# EAGLE library part SUB_DEV_2 (library WASP)
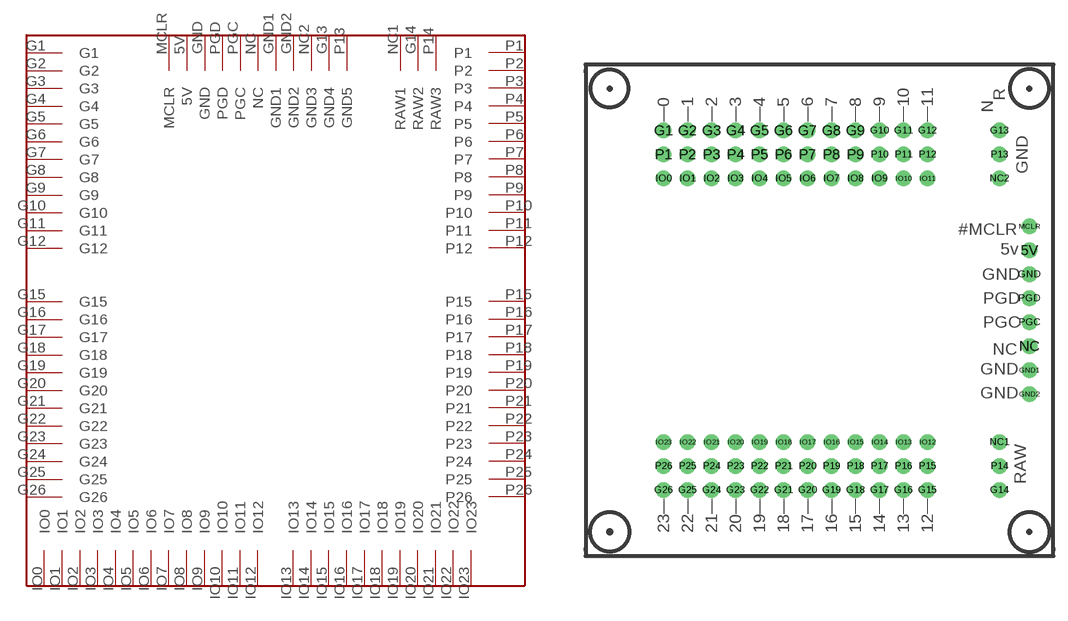
[diagram p6: symbol with the pads of SUB_DEV_2; footprint SUB_DEV_2]

Designator prefix -

## SUB_DEV_2  [SUB_DEV_2]
5V  5V
G1  G1
G2  G2
G3  G3
G4  G4
G5  G5
G6  G6
G7  G7
G8  G8
G9  G9
G10  G10
G11  G11
G12  G12
G13  GND4
G14  RAW2
G15  G15
G16  G16
G17  G17
G18  G18
G19  G19
G20  G20
G21  G21
G22  G22
G23  G23
G24  G24
G25  G25
G26  G26
GND  GND
GND1  GND1
GND2  GND2
IO0  IO0
IO1  IO1
IO2  IO2
IO3  IO3
IO4  IO4
IO5  IO5
IO6  IO6
IO7  IO7
IO8  IO8
IO9  IO9
IO10  IO10
IO11  IO11
IO12  IO12
IO13  IO13
IO14  IO14
IO15  IO15
IO16  IO16
IO17  IO17
IO18  IO18
IO19  IO19
IO20  IO20
IO21  IO21
IO22  IO22
IO23  IO23
MCLR  MCLR
NC  NC
NC1  RAW1
NC2  GND3
P1  P1
P2  P2
P3  P3
P4  P4
P5  P5
P6  P6
P7  P7
P8  P8
P9  P9
P10  P10
P11  P11
P12  P12
P13  GND5
P14  RAW3
P15  P15
P16  P16
P17  P17
P18  P18
P19  P19
P20  P20
P21  P21
P22  P22
P23  P23
P24  P24
P25  P25
P26  P26
PGC  PGC
PGD  PGD

## Footprint SUB_DEV_2 (pad centres in mm)
The Header for the general module and the connecrtion of all daughter cards.
drill 1.1 round: 5V 44.45,28.575; G1 5.715,41.275; G2 8.255,41.275; G3 10.795,41.275; G4 13.335,41.275; G5 15.875,41.275; G6 18.415,41.275; G7 20.955,41.275; G8 23.495,41.275; G9 26.035,41.275; G10 28.575,41.275; G11 31.115,41.275; G12 33.655,41.275; G13 41.275,41.275; G14 41.275,3.175; G15 33.655,3.175; G16 31.115,3.175; G17 28.575,3.175; G18 26.035,3.175; G19 23.495,3.175; G20 20.955,3.175; G21 18.415,3.175; G22 15.875,3.175; G23 13.335,3.175; G24 10.795,3.175; G25 8.255,3.175; G26 5.715,3.175; GND 44.45,26.035; GND1 44.45,15.875; GND2 44.45,13.335; IO0 5.715,36.195; IO1 8.255,36.195; IO2 10.795,36.195; IO3 13.335,36.195; IO4 15.875,36.195; IO5 18.415,36.195; IO6 20.955,36.195; IO7 23.495,36.195; IO8 26.035,36.195; IO9 28.575,36.195; IO10 31.115,36.195; IO11 33.655,36.195; IO12 33.655,8.255; IO13 31.115,8.255; IO14 28.575,8.255; IO15 26.035,8.255; IO16 23.495,8.255; IO17 20.955,8.255; IO18 18.415,8.255; IO19 15.875,8.255; IO20 13.335,8.255; IO21 10.795,8.255; IO22 8.255,8.255; IO23 5.715,8.255; MCLR 44.45,31.115; NC 44.45,18.415; NC1 41.275,8.255; NC2 41.275,36.195; P1 5.715,38.735; P2 8.255,38.735; P3 10.795,38.735; P4 13.335,38.735; P5 15.875,38.735; P6 18.415,38.735; P7 20.955,38.735; P8 23.495,38.735; P9 26.035,38.735; P10 28.575,38.735; P11 31.115,38.735; P12 33.655,38.735; P13 41.275,38.735; P14 41.275,5.715; P15 33.655,5.715; P16 31.115,5.715; P17 28.575,5.715; P18 26.035,5.715; P19 23.495,5.715; P20 20.955,5.715; P21 18.415,5.715; P22 15.875,5.715; P23 13.335,5.715; P24 10.795,5.715; P25 8.255,5.715; P26 5.715,5.715; PGC 44.45,20.955; PGD 44.45,23.495